# Altium footprint library BGS13S4N9E6327XTSA1.PcbLib: 1 footprints
Each footprint in its own frame and in the unit in brackets; x right, y up, seen from the top. Pads: shape width x height; smd on the part's side, far side on the other; paste and mask are expansions set on the pad; w line width, h text height; cw(c..) or ccw(c..) is an arc to the next point about the centre after c.
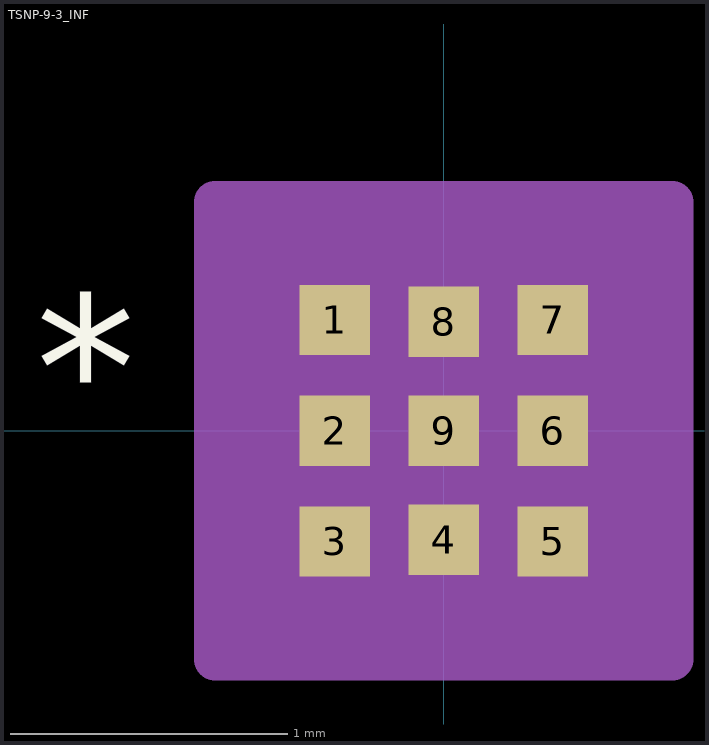
[diagram p0: the footprint, top view; thin cyan lines are the x and y axes]

## TSNP-9-3_INF [mil]
pads (9):
  rect 10x10 smd paste+0 mask+0: 1(-15.5,15.75) 2(-15.5,0) 3(-15.5,-15.75) 4(0,-15.5) 5(15.5,-15.75) 6(15.5,0) 7(15.5,15.75) 8(0,15.5) 9(0,0)
Top Overlay:
  text "*" at -58,-1.38 h50
Mechanical 13:
  lines w1: -22.5,-27.5 27.5,22.5 ; -22.5,-22.5 22.5,-22.5 ; -22.5,-22.5 -22.5,22.5 ; -22.5,-22.5 -22.5,-22.5 ; -22.5,22.5 22.5,22.5 ; -22.5,22.5 -22.5,22.5 ; 22.5,-22.5 22.5,-22.5 ; 22.5,-22.5 22.5,22.5 ; 22.5,22.5 22.5,22.5 ; -22.5,-20.75 -22.5,-10.75 -20.5,-10.75 -20.5,-20.75 -22.5,-20.75 ; -22.5,-5 -22.5,5 -20.5,5 -20.5,-5 -22.5,-5 ; -22.5,10.75 -22.5,20.75 -20.5,20.75 -20.5,10.75 -22.5,10.75 ; -5,-22.5 5,-22.5 5,-20.5 -5,-20.5 -5,-22.5 ; -5,20.5 5,20.5 5,22.5 -5,22.5 -5,20.5 ; 20.5,-20.75 22.5,-20.75 22.5,-10.75 20.5,-10.75 20.5,-20.75 ; 20.5,-5 22.5,-5 22.5,5 20.5,5 20.5,-5 ; 20.5,10.75 22.5,10.75 22.5,20.75 20.5,20.75 20.5,10.75
  text "*" at -23,-1.38 h50
Mechanical 15:
  region: -15,-32.5 -32.5,-32.5 -32.5,-30.75 -32.5,30.75 -32.5,32.5 -15,32.5 15,32.5 32.5,32.5 32.5,30.75 32.5,-30.75 32.5,-32.5 15,-32.5
  lines w6: -32.5,-30.75 -32.5,-32.5 -15,-32.5 ; -32.5,-30.75 -32.5,-30.75 ; -32.5,-30.75 -32.5,30.75 ; -32.5,30.75 -32.5,30.75 ; -32.5,30.75 -32.5,32.5 -15,32.5 ; -15,-32.5 15,-32.5 ; -15,-32.5 -15,-32.5 ; -15,32.5 -15,32.5 ; -15,32.5 15,32.5 ; 15,-32.5 32.5,-32.5 32.5,-30.75 ; 15,-32.5 15,-32.5 ; 15,32.5 15,32.5 ; 15,32.5 32.5,32.5 32.5,30.75 ; 32.5,-30.75 32.5,30.75 ; 32.5,-30.75 32.5,-30.75 ; 32.5,30.75 32.5,30.75